# EAGLE library part LTC4412 (library everykey)
Linear Tech Ideal Diode PFET Controller
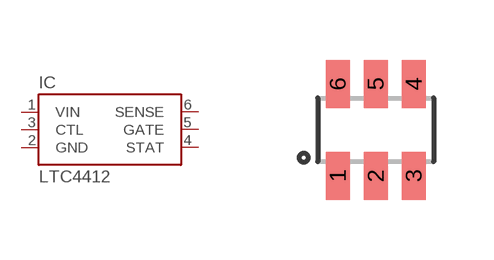
[diagram p72: symbol with the pads of SOT-23-6; footprint SOT-23-6]

Designator prefix IC

## LTC4412SOT23  [SOT-23-6]
1  VIN  in
2  GND  pwr
3  CTL  in
4  STAT  oc
5  GATE  out
6  SENSE  in

## Footprint SOT-23-6 (pad centres in mm)
SOT23-6 package, 0.95mm pitch. Also works for SuperSOT 6.
smd 0.6 x 1.2: 1 -0.95,-1.15; 2 0,-1.15; 3 0.95,-1.15; 4 0.95,1.15; 5 0,1.15; 6 -0.95,1.15